# Altium schematic symbol library CAP.SchLib: 2 symbols
Pins are listed as number, name and electrical type; pins without a type are passive.

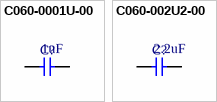
[diagram p0: symbols C060-0001U-00 to C060-002U2-00]

## C060-0001U-00
designator C?  value 1uF  (hidden comment: C060-0001U-00)
CAP CER 0603 1uF 16V X5R 20%; Tolerance: 20%; Voltage: 16V; Package: 0603
footprint PCB_GENERIC_SMD_0603
pins: 1, 2

## C060-002U2-00
designator C?  value 2.2uF  (hidden comment: C060-002U2-00)
CAP CER 0603 2.2uF 16V X5R 20%; Tolerance: 20%; Voltage: 16V; Package: 0603
footprint PCB_GENERIC_SMD_0603
pins: 1, 2